# Altium footprint library EFM8BB1x_QFN20.PcbLib: 1 footprints
Each footprint in its own frame and in the unit in brackets; x right, y up, seen from the top. Pads: shape width x height; smd on the part's side, far side on the other; paste and mask are expansions set on the pad; w line width, h text height; cw(c..) or ccw(c..) is an arc to the next point about the centre after c.
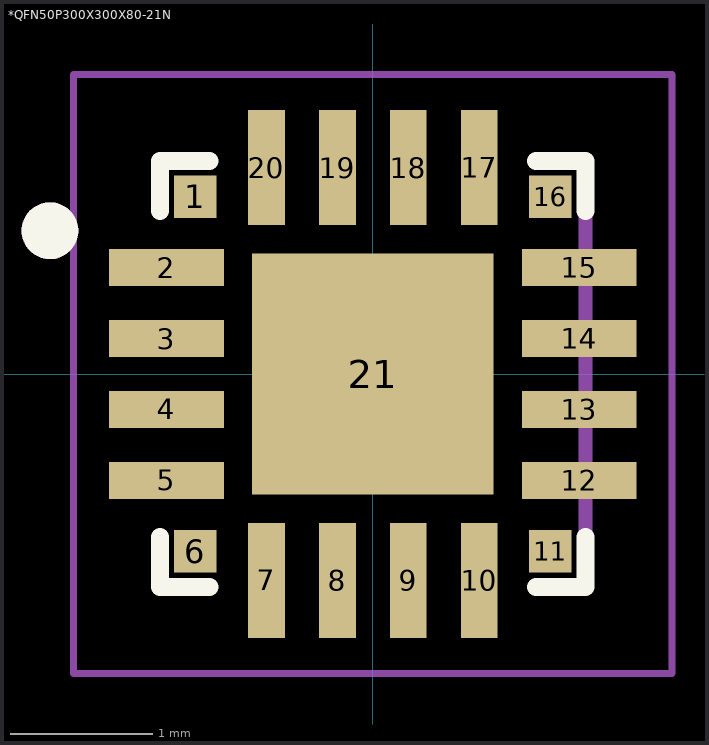
[diagram p0: the footprint, top view; thin cyan lines are the x and y axes]

## *QFN50P300X300X80-21N [mm]
pads (21):
  rect 0.3x0.3 smd: 1(-1.25,1.25) 6(-1.25,-1.25) 11(1.25,-1.25) 16(1.25,1.25)
  rect 0.81x0.26 smd: 2(-1.455,0.75) 3(-1.455,0.25) 4(-1.455,-0.25) 5(-1.455,-0.75) 12(1.455,-0.75) 13(1.455,-0.25) 14(1.455,0.25) 15(1.455,0.75)
  rect 0.26x0.81 smd: 7(-0.75,-1.455) 8(-0.25,-1.455) 9(0.25,-1.455) 10(0.75,-1.455) 17(0.75,1.455) 18(0.25,1.455) 19(-0.25,1.455) 20(-0.75,1.455)
  rect 1.7x1.7 smd: 21(0,0)
Top Overlay:
  circle w0.2: c-2.275,1.01 r0.1
  lines w0.127: -1.5,-1.15 -1.5,-1.5 -1.15,-1.5 ; -1.5,1.15 -1.5,1.5 -1.15,1.5 ; 1.15,-1.5 1.5,-1.5 1.5,-1.15 ; 1.15,1.5 1.5,1.5 1.5,1.15
Top Paste:
  region: -0.541,0.54 0.54,0.54 0.54,-0.541 -0.541,-0.541
Mechanical 4:
  circle w0.2: c-2.275,1.01 r0.1
  circle w0.2: c-2.275,1.01 r0.1
Mechanical 13:
  lines w0.1: 1.5,-1.5 1.5,1.5
Mechanical 16:
  lines w0.05: -2.11,-2.11 2.11,-2.11 2.11,2.11 -2.11,2.11 -2.11,-2.11
3D body "QFN50P300X300X70_HS-17N.step": height 0.7, standoff 0, extent -1.516,-1.516 1.524,1.524